# EAGLE library part LM386 (library IC)
125-035: LM386, Low Voltage Audio Power Amplifier
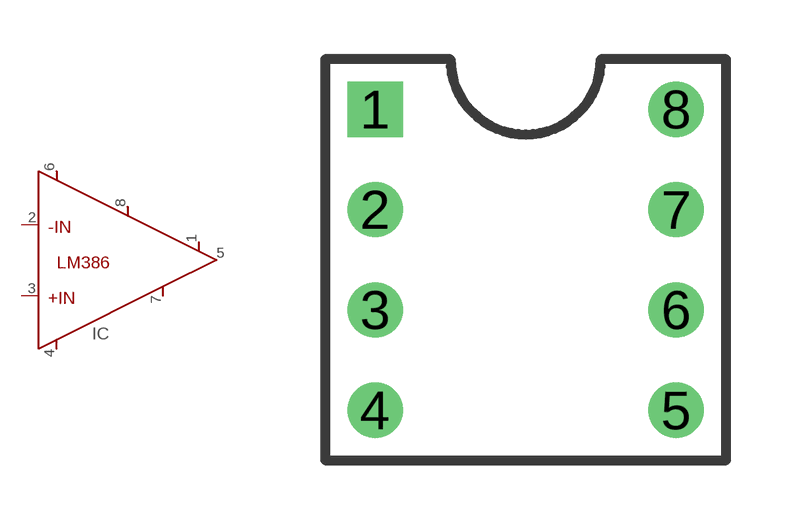
[diagram p6: symbol with the pads of DIP-8C; footprint DIP-8C]

Designator prefix IC

## LM386N  [DIP-8C]
1  GAIN1
2  INPUT-
3  INPUT+
4  GND  pwr
5  VOUT
6  VS  pwr
7  BYPASS
8  GAIN2

## Footprint DIP-8C (pad centres in mm)
drill 0.889 square: 1 -3.81,3.81
drill 0.889 round: 2 -3.81,1.27; 3 -3.81,-1.27; 4 -3.81,-3.81; 5 3.81,-3.81; 6 3.81,-1.27; 7 3.81,1.27; 8 3.81,3.81